# Altium footprint library PcbLib1.PcbLib: 123 footprints (part 7 of 8)
Each footprint in its own frame and in the unit in brackets; x right, y up, seen from the top. Pads: shape width x height; smd on the part's side, far side on the other; paste and mask are expansions set on the pad; w line width, h text height; cw(c..) or ccw(c..) is an arc to the next point about the centre after c.
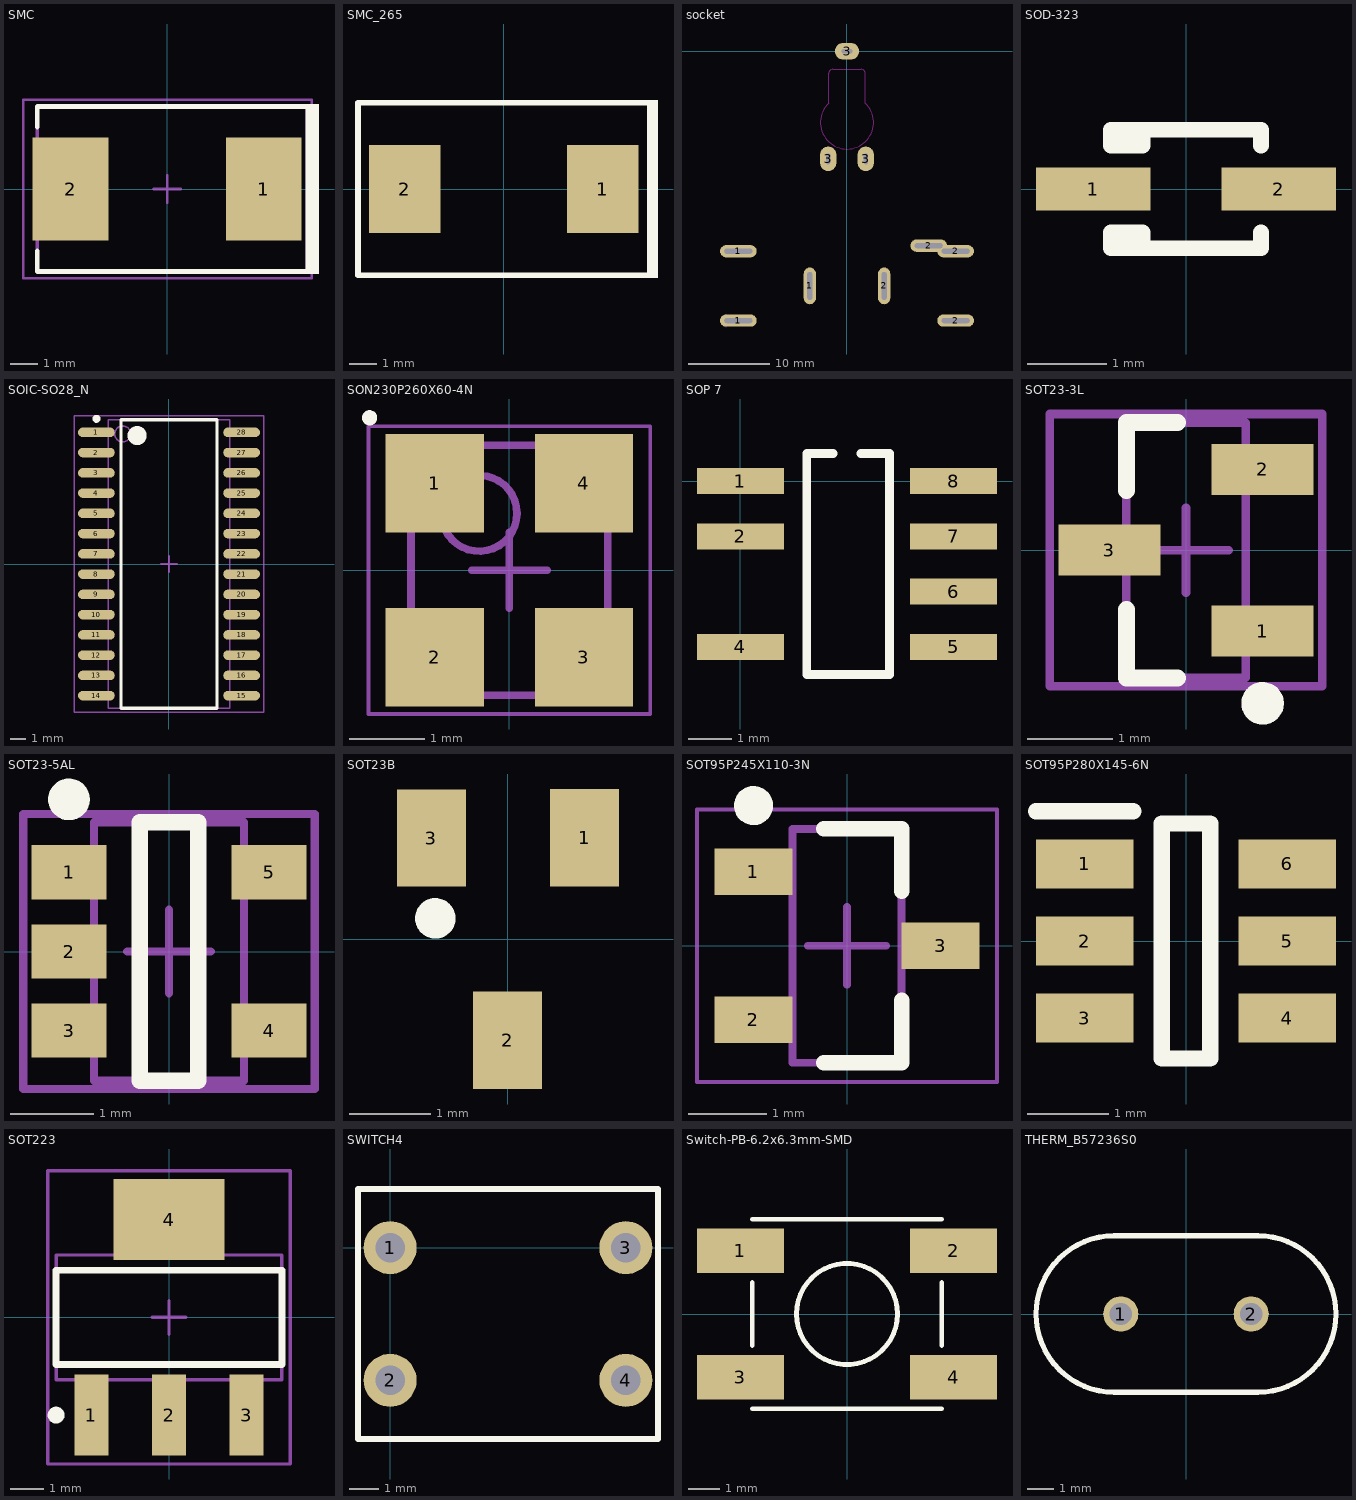
[diagram p6: the footprints below, top view; thin cyan lines are the x and y axes]

## SMC [mil] "Molded Diode, 2-Leads, Body 6.9x5.8mm, IPC Medium Density, based on OnSemi component dimensions and land patterns"
height 94.88
pads (2):
  rect 110x150 smd: 1(140.49,0) 2(-140.49,0)
Top Overlay:
  region: 221,123.5 201,123.5 201,-123.5 221,-123.5
  lines w7: -189,-90.25 -189,-120 210,-120 ; -189,90.25 -189,120 210,120
Mechanical 5:
  region: 221,123.5 201,123.5 201,-123.5 221,-123.5
  lines w5: 210,-120 -189,-120 -189,120 210,120
Mechanical 15:
  lines w3.94: -19.68,0 19.69,0 ; 0,-19.69 0,19.68 ; -209.38,-129.92 210.46,-129.92 210.46,129.92 -209.38,129.92 -209.38,-129.92
3D body: height 91.35, standoff 0.6, extent -156.5,-116.15 156.49,116.14

## SMC_265 [mm] "SMD, 2-Leads, Body 7.15x6.25mm"
height 2.65
pads (2):
  rect 2.6x3.2 smd: 1(3.6,0) 2(-3.6,0)
Top Overlay:
  region: 5.6,3.225 5.2,3.225 5.2,-3.225 5.6,-3.225
  lines w0.2: 5.3,-3.125 -5.3,-3.125 -5.3,3.125 5.3,3.125
Mechanical 5:
  region: 5.6,3.175 5.2,3.175 5.2,-3.175 5.6,-3.175
  lines w0.1: 5.3,-3.125 -5.3,-3.125 -5.3,3.125 5.3,3.125
3D body: height 2.65, standoff 0.3, extent -3.575,-3.125 3.575,3.125
3D body: height 0.3, standoff 0.05, extent -3.575,-3.125 3.575,3.125
3D body: height 1.71, standoff 0, extent 2.471,-1.635 4.075,1.635
3D body: height 1.71, standoff 0, extent -4.075,-1.635 -2.471,1.635

## socket [mm]
pads (10):
  oval 4.5x1.5 hole 0.6 slot 3.4 at 0 deg: 1(-13.3,-24.471) 1(-13.3,-32.971) 2(10,-23.795) 2(13.3,-32.971) 2(13.3,-24.471)
  oval 1.5x4.5 hole 0.6 slot 3.4 at 90 deg: 1(-4.55,-28.72) 2(4.55,-28.72)
  oval 2x3 hole 0.5 slot 1.3 at 90 deg: 3(-2.3,-13.17) 3(2.3,-13.17)
  oval 3x2 hole 0.5 slot 1.3 at 0 deg: 3(0,0.001)
Keep-Out Layer:
  lines w0.013: -14.87,-33.77 cw(c-14.37,-33.77) -14.37,-33.27 ; -14.87,-32.17 ccw(c-14.37,-32.17) -14.37,-32.67 ; -2.25,-6.375 ccw(c0,-8.72) 2.25,-6.375 2.25,-2.72 ccw(c1.75,-2.72) 1.75,-2.22 -1.75,-2.22 ccw(c-1.75,-2.72) -2.25,-2.72 -2.25,-6.375
3D body: height 14.21, standoff -0.9, extent -14.74,-33.27 14.86,0.151

## SOD-323 [mm] "SOD-323/SC-76; 2 Leads; Body 1.7 x 1.3 mm, (LxW)"
height 1.1
pads (2):
  rect 1.45x0.55 smd: 1(-1.175,0) 2(1.175,0)
Top Overlay:
  lines w0.2: -0.55,-0.75 -0.55,-0.55 -0.95,-0.55 -0.95,-0.75 0.95,-0.75 0.95,-0.55 ; -0.55,0.75 -0.55,0.55 -0.95,0.55 -0.95,0.75 0.95,0.75 0.95,0.55

## SOIC-SO28_N [mm] "SOIC, 28-Leads, Body 17.9x7.5mm, Pitch 1.27mm, IPC Medium Density"
height 2.65
pads (28):
  oval 2.3x0.6 smd: 1(-4.55,8.255) 2(-4.55,6.985) 3(-4.55,5.715) 4(-4.55,4.445) 5(-4.55,3.175) 6(-4.55,1.905) 7(-4.55,0.635) 8(-4.55,-0.635) 9(-4.55,-1.905) 10(-4.55,-3.175) 11(-4.55,-4.445) 12(-4.55,-5.715) 13(-4.55,-6.985) 14(-4.55,-8.255) 15(4.55,-8.255) 16(4.55,-6.985) 17(4.55,-5.715) 18(4.55,-4.445) 19(4.55,-3.175) 20(4.55,-1.905) 21(4.55,-0.635) 22(4.55,0.635) 23(4.55,1.905) 24(4.55,3.175) 25(4.55,4.445) 26(4.55,5.715) 27(4.55,6.985) 28(4.55,8.255)
Top Overlay:
  circle w0.25: c-4.55,9.105 r0.125
  circle w0.6: c-2,8.05 r0.3
  lines w0.2: -3,-9.05 -3,9.05 3,9.05 3,-9.05 -3,-9.05
Mechanical 13:
  circle w0.1: c-2.9,8.155 r0.5
  lines w0.1: -3.8,-9.055 -3.8,9.055 3.8,9.055 3.8,-9.055 -3.8,-9.055
Mechanical 15:
  lines w0.1: -0.5,0 0.5,0 ; 0,-0.5 0,0.5 ; -5.95,-9.3 -5.95,9.3 5.95,9.3 5.95,-9.3 -5.95,-9.3
3D body: height 2.65, standoff 0, extent -3.8,-9.055 3.8,9.055

## SON230P260X60-4N [mm] "SON, 4-Leads, Body 3.25x2.55mm, Pitch 2.30mm, IPC Medium Density"
height 0.6
pads (4):
  rect 1.3x1.3 smd: 1(-0.985,1.15) 2(-0.985,-1.15) 3(0.985,-1.15) 4(0.985,1.15)
Top Overlay:
  circle w0.1: c-1.847,2.012 r0.05
Mechanical 13:
  circle w0.1: c-0.4,0.75 r0.5
  lines w0.1: -1.3,-1.65 -1.3,1.65 1.3,1.65 1.3,-1.65 -1.3,-1.65
Mechanical 15:
  lines w0.05: -1.86,-1.9 -1.86,1.9 1.86,1.9 1.86,-1.9 -1.86,-1.9
  lines w0.1: -0.5,0 0.5,0 ; 0,-0.5 0,0.5
3D body: height 0.6, standoff 0.1, extent -1.3,-1.65 1.3,1.65

## SOP 7 [mm]
height 4
pads (7):
  rect 2x0.6 smd: 1(0,0) 2(0,-1.27) 4(0,-3.81) 5(4.9,-3.81) 6(4.9,-2.54) 7(4.9,-1.27) 8(4.9,0)
Top Overlay:
  lines w0.2: 2.133,0.635 1.524,0.635 1.524,-4.445 3.429,-4.445 3.429,0.635 2.768,0.635
3D body: height 1.36, standoff -0.31, extent -0.661,-4.38 5.385,0.519

## SOT23-3L [mm] "SOT23, 3-Leads, Body 2.9x1.3mm, Pitch 0.95mm, Lead Span 2.5mm, IPC High Density"
height 1.1
pads (3):
  rect 1.2x0.6 smd: 1(0.9,-0.95) 2(0.9,0.95) 3(-0.9,0)
Top Overlay:
  circle w0.25: c0.9,-1.8 r0.125
  lines w0.2: -0.7,-0.7 -0.7,-1.5 -0.1,-1.5 ; -0.7,0.7 -0.7,1.5 -0.1,1.5
Mechanical 13:
  lines w0.1: -0.7,-1.5 -0.7,1.5 0.7,1.5 0.7,-1.5 -0.7,-1.5
Mechanical 15:
  lines w0.1: -0.5,0 0.5,0 ; 0,-0.5 0,0.5 ; -1.6,-1.6 -1.6,1.6 1.6,1.6 1.6,-1.6 -1.6,-1.6
3D body: height 1.1, standoff 0, extent -0.7,-1.5 0.7,1.5

## SOT23-5AL [mm] "SOT23, 5-Leads, Body 2.9x1.6mm, Pitch 0.95mm, Lead Span 2.8mm, IPC High Density"
height 1.45
pads (5):
  rect 0.9x0.65 smd: 1(-1.2,0.95) 2(-1.2,0) 3(-1.2,-0.95) 4(1.2,-0.95) 5(1.2,0.95)
Top Overlay:
  circle w0.25: c-1.2,1.825 r0.125
  lines w0.2: -0.35,-1.55 0.35,-1.55 0.35,1.55 -0.35,1.55 -0.35,-1.55
Mechanical 13:
  lines w0.1: -0.9,-1.55 -0.9,1.55 0.9,1.55 0.9,-1.55 -0.9,-1.55
Mechanical 15:
  lines w0.1: -0.5,0 0.5,0 ; 0,-0.5 0,0.5 ; -1.75,-1.65 -1.75,1.65 1.75,1.65 1.75,-1.65 -1.75,-1.65
3D body: height 1.45, standoff 0, extent -0.9,-1.55 0.9,1.55

## SOT23B [mm] "SOT 23B"
height 1.27
pads (3):
  rect 0.85x1.2 smd: 1(0.95,1.25) 2(0,-1.25) 3(-0.94,1.245)
Top Overlay:
  circle w0.25: c-0.891,0.254 r0.125
3D body: height 1.06, standoff -0.04, extent -1.5,-1.199 1.5,1.301

## SOT95P245X110-3N [mm] "SOT23, 3-Leads, Body 2.90x2.45mm, Pitch 0.95mm, IPC Medium Density"
height 1.1
pads (3):
  rect 1x0.6 smd: 1(-1.2,0.95) 2(-1.2,-0.95) 3(1.2,0)
Top Overlay:
  circle w0.25: c-1.2,1.8 r0.125
  lines w0.2: -0.3,-1.5 0.7,-1.5 0.7,-0.7 ; -0.3,1.5 0.7,1.5 0.7,0.7
Mechanical 13:
  lines w0.1: -0.7,-1.5 0.7,-1.5 0.7,1.5 -0.7,1.5 -0.7,-1.5
Mechanical 15:
  lines w0.05: -1.925,-1.75 1.925,-1.75 1.925,1.75 -1.925,1.75 -1.925,-1.75
  lines w0.1: -0.5,0 0.5,0 ; 0,-0.5 0,0.5
3D body: height 1.1, standoff 0.05, extent -0.7,-1.5 0.7,1.5

## SOT95P280X145-6N [mm]
pads (6):
  rect 1.2x0.6 smd: 1(-1.25,0.95) 2(-1.25,0) 3(-1.25,-0.95) 4(1.25,-0.95) 5(1.25,0) 6(1.25,0.95)
Top Overlay:
  lines w0.2: -1.85,1.6 -0.65,1.6 ; -0.3,-1.45 0.3,-1.45 0.3,1.45 -0.3,1.45 -0.3,-1.45
3D body: height 1.45, standoff 0, extent -1.4,-1.45 1.4,1.45

## SOT223 [mm]
height 4
pads (4):
  rect 1x2.4 smd: 1(-2.3,-2.9) 2(0,-2.9) 3(2.3,-2.9)
  rect 3.3x2.4 smd: 4(0,2.9)
Top Overlay:
  circle w0.25: c-3.35,-2.9 r0.125
  lines w0.2: -3.35,-1.4 -3.35,1.4 3.35,1.4 3.35,-1.4 -3.35,-1.4
Mechanical 13:
  lines w0.1: -3.35,-1.85 -3.35,1.85 3.35,1.85 3.35,-1.85 -3.35,-1.85
Mechanical 15:
  lines w0.1: -0.5,0 0.5,0 ; 0,-0.5 0,0.5 ; -3.6,-4.35 -3.6,4.35 3.6,4.35 3.6,-4.35 -3.6,-4.35
3D body: height 1.68, standoff 0, extent -3.25,-3.556 3.25,3.404

## SWITCH4 [mm]
height 2.54
pads (4):
  round 1.8 hole 1: 1(0,0) 2(0,-4.5) 3(8,0) 4(8,-4.5)
Top Overlay:
  lines w0.2: -1.092,-6.5 -1.092,2 9.093,2 9.093,-6.5 -1.092,-6.5

## Switch-PB-6.2x6.3mm-SMD [mm] "6.2×6.5mm TACT Switch, without ground connector"
height 2.5
pads (4):
  rect 2.75x1.4 smd: 1(-3.375,2) 2(3.375,2) 3(-3.375,-2) 4(3.375,-2)
Top Overlay:
  circle w0.152: c0,0 r1.601
  lines w0.152: -3,-3 3,-3 ; -3,-1 -3,1 ; -3,3 3,3 ; 3,-1 3,1
3D body: height 3.1, standoff 0, extent -4,-3 4,3.3

## THERM_B57236S0 [mm] "EPCOS"
height 16
pads (2):
  round 1.35 hole 0.85: 1(-2.5,0) 2(2.5,0)
Top Overlay:
  lines w0.2: -2.75,-3 cw(c-2.75,0) -2.75,3 2.75,3 cw(c2.75,0) 2.75,-3 -2.75,-3
Mechanical 5:
  lines w0.1: -2.75,-3 cw(c-2.75,0) -2.75,3 2.75,3 cw(c2.75,0) 2.75,-3 -2.75,-3
3D body: height 15.99, standoff 4.51, extent -5.755,-3 5.7,3
3D body: height 5.5, standoff -2.5, extent 2.202,-0.299 2.8,0.3
3D body: height 5.5, standoff -2.5, extent -2.797,-0.299 -2.2,0.3